# EAGLE library part TLE2426IDR (library eric-custom)
TLE2426 Rail splitter
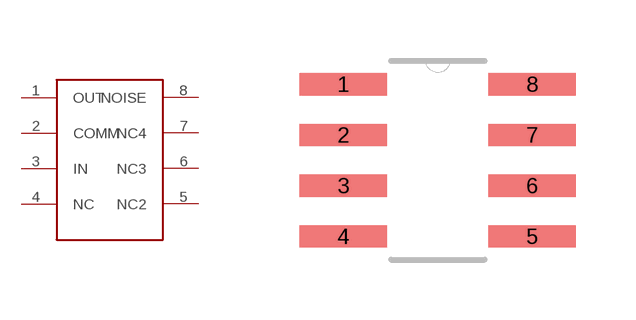
[diagram p11: symbol with the pads of R_8; footprint R_8]

Designator prefix -

## TLE2426IDR  [R_8]
1  OUT
2  COMM
3  IN
4  NC
5  NC2
6  NC3
7  NC4
8  NOISE

## Footprint R_8 (pad centres in mm)
smd 2.184 x 0.559: 1 -2.362,1.905; 2 -2.362,0.635; 3 -2.362,-0.635; 4 -2.362,-1.905; 5 2.362,-1.905; 6 2.362,-0.635; 7 2.362,0.635; 8 2.362,1.905